# Altium schematic symbol library Device.SchLib: 567 symbols (part 2 of 3)
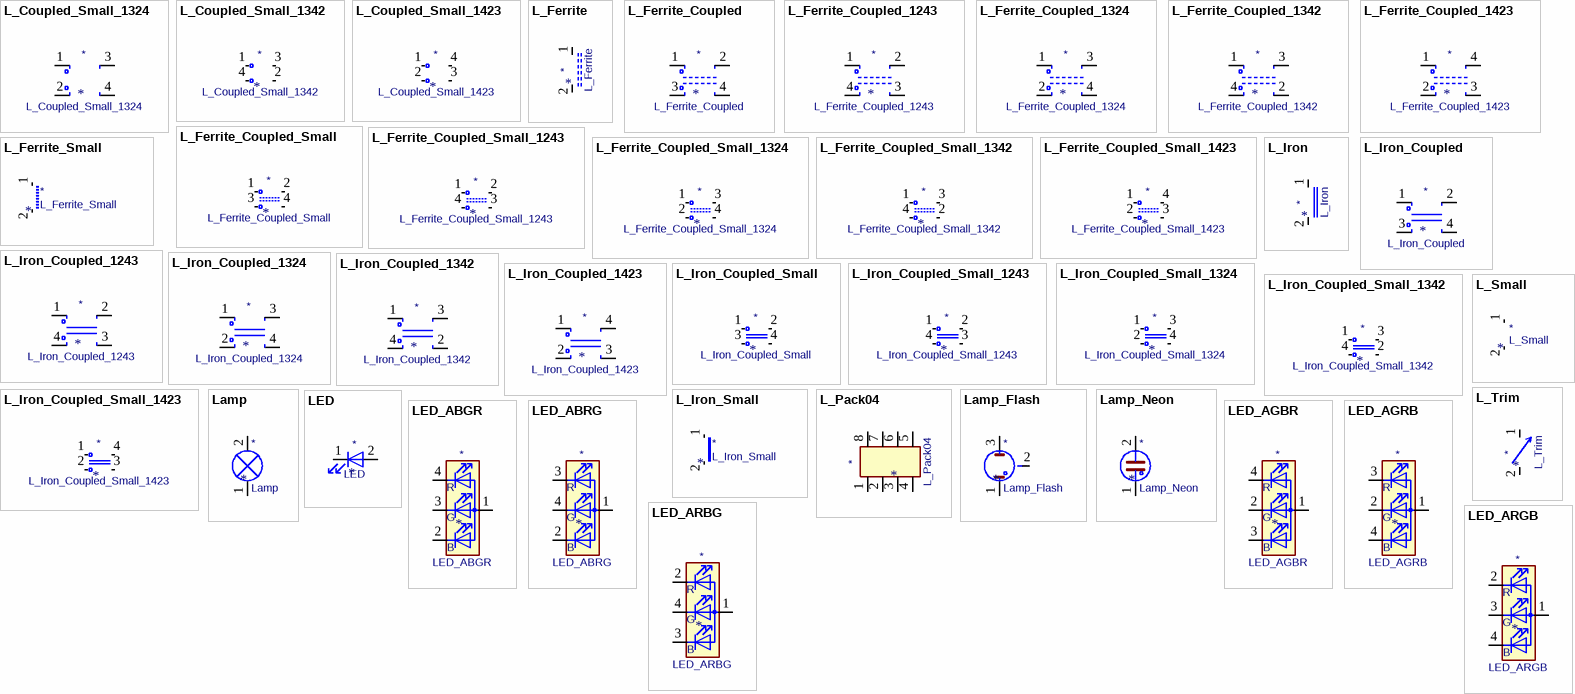
[diagram p20: symbols L_Coupled_Small_1324 to LED_ARGB]

## Lamp_Flash
designator *  value Lamp_Flash
ki_keywords: flash lamp; ki_description: Flash lamp tube; Supplier: ~
pins: 1, 2, 3

## Lamp_Neon
designator *  value Lamp_Neon
ki_keywords: neon lamp; Supplier: ~; ki_description: Neon lamp
pins: 1, 2

## LED
designator *  value LED
ki_keywords: LED diode; ki_description: Light emitting diode; ki_fp_filters: LED* LED_SMD:* LED_THT:*; Supplier: ~
footprint LED_0603_1608Metric
pins: 1 K, 2 A

## LED_ABGR
designator *  value LED_ABGR
ki_keywords: LED RGB diode; ki_description: RGB LED, anode/blue/green/red; ki_fp_filters: LED* LED_SMD:* LED_THT:*; Supplier: ~
pins: 1 A, 2 BK, 3 GK, 4 RK
text: R; G; B

## LED_ABRG
designator *  value LED_ABRG
ki_keywords: LED RGB diode; ki_description: RGB LED, anode/blue/red/green; ki_fp_filters: LED* LED_SMD:* LED_THT:*; Supplier: ~
pins: 1 A, 2 BK, 3 RK, 4 GK
text: R; G; B

## LED_AGBR
designator *  value LED_AGBR
ki_keywords: LED RGB diode; ki_description: RGB LED, anode/green/blue/red; ki_fp_filters: LED* LED_SMD:* LED_THT:*; Supplier: ~
pins: 1 A, 2 GK, 3 BK, 4 RK
text: R; G; B

## LED_AGRB
designator *  value LED_AGRB
ki_keywords: LED RGB diode; ki_description: RGB LED, anode/green/red/blue; ki_fp_filters: LED* LED_SMD:* LED_THT:*; Supplier: ~
pins: 1 A, 2 GK, 3 RK, 4 BK
text: R; G; B

## LED_ARBG
designator *  value LED_ARBG
ki_keywords: LED RGB diode; ki_description: RGB LED, anode/red/blue/green; ki_fp_filters: LED* LED_SMD:* LED_THT:*; Supplier: ~
pins: 1 A, 2 RK, 3 BK, 4 GK
text: R; G; B

## LED_ARGB
designator *  value LED_ARGB
ki_keywords: LED RGB diode; ki_description: RGB LED, anode/red/green/blue; ki_fp_filters: LED* LED_SMD:* LED_THT:*; Supplier: ~
pins: 1 A, 2 RK, 3 GK, 4 BK
text: R; G; B

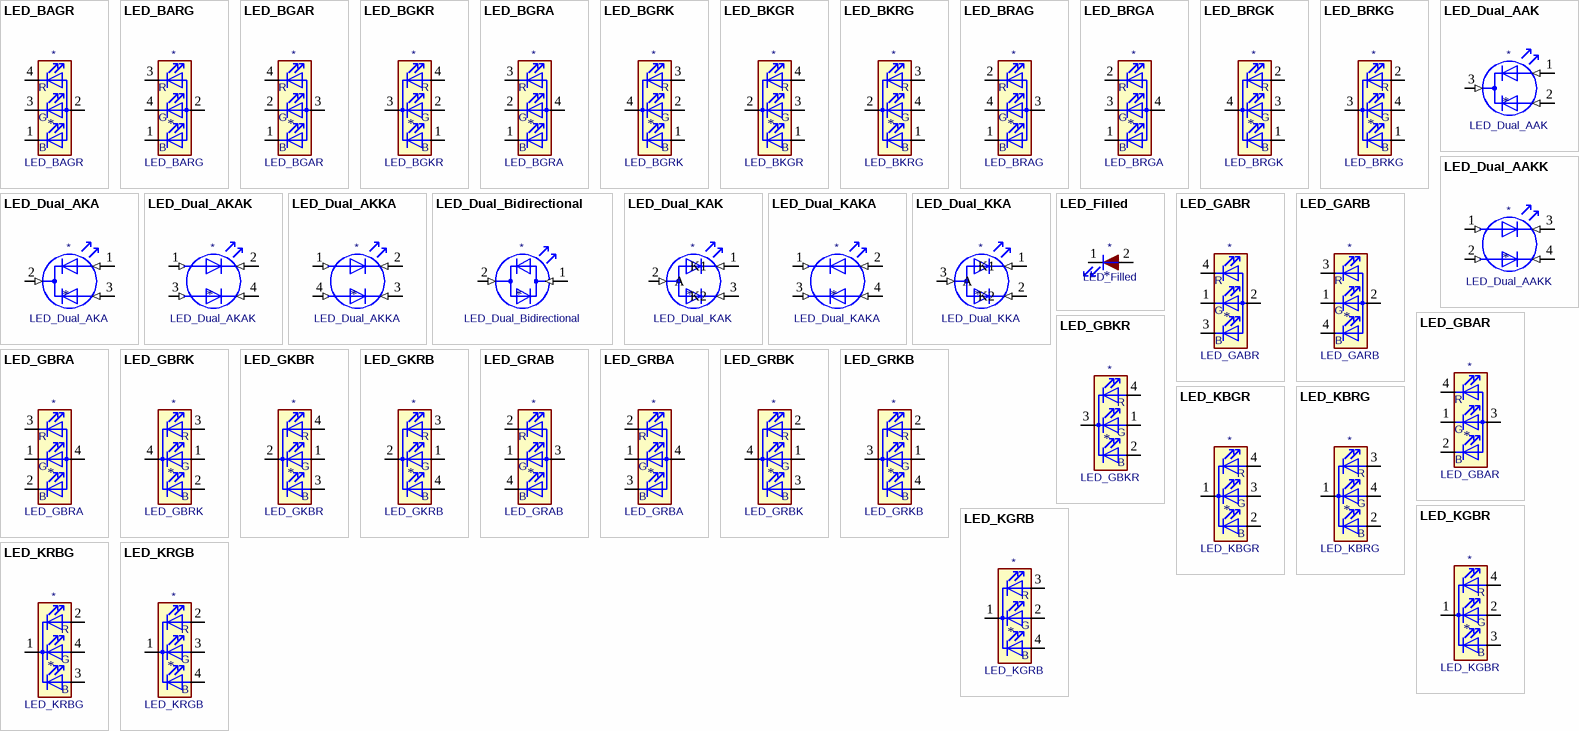
[diagram p7: symbols LED_BAGR to LED_KRGB]

## LED_BAGR
designator *  value LED_BAGR
ki_keywords: LED RGB diode; ki_description: RGB LED, blue/anode/green/red; ki_fp_filters: LED* LED_SMD:* LED_THT:*; Supplier: ~
pins: 1 BK, 2 A, 3 GK, 4 RK
text: R; G; B

## LED_BARG
designator *  value LED_BARG
ki_keywords: LED RGB diode; ki_description: RGB LED, blue/anode/red/green; ki_fp_filters: LED* LED_SMD:* LED_THT:*; Supplier: ~
pins: 1 BK, 2 A, 3 RK, 4 GK
text: R; G; B

## LED_BGAR
designator *  value LED_BGAR
ki_keywords: LED RGB diode; ki_description: RGB LED, blue/green/anode/red; ki_fp_filters: LED* LED_SMD:* LED_THT:*; Supplier: ~
pins: 1 BK, 2 GK, 3 A, 4 RK
text: R; G; B

## LED_BGKR
designator *  value LED_BGKR
ki_keywords: LED RGB diode; ki_description: RGB LED, blue/green/cathode/red; ki_fp_filters: LED* LED_SMD:* LED_THT:*; Supplier: ~
pins: 1 BA, 2 GA, 3 K, 4 RA
text: R; G; B

## LED_BGRA
designator *  value LED_BGRA
ki_keywords: LED RGB diode; ki_description: RGB LED, blue/green/red/anode; ki_fp_filters: LED* LED_SMD:* LED_THT:*; Supplier: ~
pins: 1 BK, 2 GK, 3 RK, 4 A
text: R; G; B

## LED_BGRK
designator *  value LED_BGRK
ki_keywords: LED RGB diode; ki_description: RGB LED, blue/green/red/cathode; ki_fp_filters: LED* LED_SMD:* LED_THT:*; Supplier: ~
pins: 1 BA, 2 GA, 3 RA, 4 K
text: R; G; B

## LED_BKGR
designator *  value LED_BKGR
ki_keywords: LED RGB diode; ki_description: RGB LED, blue/cathode/green/red; ki_fp_filters: LED* LED_SMD:* LED_THT:*; Supplier: ~
pins: 1 BA, 2 K, 3 GA, 4 RA
text: R; G; B

## LED_BKRG
designator *  value LED_BKRG
ki_keywords: LED RGB diode; ki_description: RGB LED, blue/cathode/red/green; ki_fp_filters: LED* LED_SMD:* LED_THT:*; Supplier: ~
pins: 1 BA, 2 K, 3 RA, 4 GA
text: R; G; B

## LED_BRAG
designator *  value LED_BRAG
ki_keywords: LED RGB diode; ki_description: RGB LED, blue/red/anode/green; ki_fp_filters: LED* LED_SMD:* LED_THT:*; Supplier: ~
pins: 1 BK, 2 RK, 3 A, 4 GK
text: R; G; B

## LED_BRGA
designator *  value LED_BRGA
ki_keywords: LED RGB diode; ki_description: RGB LED, blue/red/green/anode; ki_fp_filters: LED* LED_SMD:* LED_THT:*; Supplier: ~
pins: 1 BK, 2 RK, 3 GK, 4 A
text: R; G; B

## LED_BRGK
designator *  value LED_BRGK
ki_keywords: LED RGB diode; ki_description: RGB LED, blue/red/green/cathode; ki_fp_filters: LED* LED_SMD:* LED_THT:*; Supplier: ~
pins: 1 BA, 2 RA, 3 GA, 4 K
text: R; G; B

## LED_BRKG
designator *  value LED_BRKG
ki_keywords: LED RGB diode; ki_description: RGB LED, blue/red/cathode/green; ki_fp_filters: LED* LED_SMD:* LED_THT:*; Supplier: ~
pins: 1 BA, 2 RA, 3 K, 4 GA
text: R; G; B

## LED_Dual_AAK
designator *  value LED_Dual_AAK
ki_keywords: LED diode bicolor dual; ki_description: Dual LED, common cathode on pin 3; ki_fp_filters: LED* LED_SMD:* LED_THT:*; Supplier: ~
pins: 1 A1 (in), 2 A2 (in), 3 K (in)

## LED_Dual_AAKK
designator *  value LED_Dual_AAKK
ki_keywords: LED diode bicolor dual; ki_description: Dual LED, cathodes on pins 3 and 4; ki_fp_filters: LED* LED_SMD:* LED_THT:*; Supplier: ~
pins: 1 A1 (in), 2 A2 (in), 3 K1 (in), 4 K2 (in)

## LED_Dual_AKA
designator *  value LED_Dual_AKA
ki_keywords: LED diode bicolor dual; ki_description: Dual LED, common cathode on pin 2; ki_fp_filters: LED* LED_SMD:* LED_THT:*; Supplier: ~
pins: 1 A1 (in), 2 K (in), 3 A2 (in)

## LED_Dual_AKAK
designator *  value LED_Dual_AKAK
ki_keywords: LED diode bicolor dual; ki_description: Dual LED, cathodes on pins 2 and 4; ki_fp_filters: LED* LED_SMD:* LED_THT:*; Supplier: ~
pins: 1 A1 (in), 2 K1 (in), 3 A2 (in), 4 K2 (in)

## LED_Dual_AKKA
designator *  value LED_Dual_AKKA
ki_keywords: LED diode bicolor dual; ki_description: Dual LED, cathodes on pins 2 and 3; ki_fp_filters: LED* LED_SMD:* LED_THT:*; Supplier: ~
pins: 1 A1 (in), 2 K1 (in), 3 K2 (in), 4 A2 (in)

## LED_Dual_Bidirectional
designator *  value LED_Dual_Bidirectional
ki_keywords: LED diode bicolor dual; ki_description: Dual LED, bidirectional; ki_fp_filters: LED* LED_SMD:* LED_THT:*; Supplier: ~
pins: 1 KA (in), 2 AK (in)

## LED_Dual_KAK
designator *  value LED_Dual_KAK
ki_keywords: LED diode bicolor dual; ki_description: Dual LED, common anode on pin 2; ki_fp_filters: LED* LED_SMD:* LED_THT:*; Supplier: ~
pins: 1 K1 (in), 2 A (in), 3 K2 (in)

## LED_Dual_KAKA
designator *  value LED_Dual_KAKA
ki_keywords: LED diode bicolor dual; ki_description: Dual LED, cathodes on pins 1 and 3; ki_fp_filters: LED* LED_SMD:* LED_THT:*; Supplier: ~
pins: 1 A1 (in), 2 K1 (in), 3 A2 (in), 4 K2 (in)

## LED_Dual_KKA
designator *  value LED_Dual_KKA
ki_keywords: LED diode bicolor dual; ki_description: Dual LED, common anode on pin 3; ki_fp_filters: LED* LED_SMD:* LED_THT:*; Supplier: ~
pins: 1 K1 (in), 2 K2 (in), 3 A (in)

## LED_Filled
designator *  value LED_Filled
ki_keywords: LED diode; ki_description: Light emitting diode, filled shape; ki_fp_filters: LED* LED_SMD:* LED_THT:*; Supplier: ~
pins: 1 K, 2 A

## LED_GABR
designator *  value LED_GABR
ki_keywords: LED RGB diode; ki_description: RGB LED, green/anode/blue/red; ki_fp_filters: LED* LED_SMD:* LED_THT:*; Supplier: ~
pins: 1 GK, 2 A, 3 BK, 4 RK
text: R; G; B

## LED_GARB
designator *  value LED_GARB
ki_keywords: LED RGB diode; ki_description: RGB LED, green/anode/red/blue; ki_fp_filters: LED* LED_SMD:* LED_THT:*; Supplier: ~
pins: 1 GK, 2 A, 3 RK, 4 BK
text: R; G; B

## LED_GBAR
designator *  value LED_GBAR
ki_keywords: LED RGB diode; ki_description: RGB LED, green/blue/anode/red; ki_fp_filters: LED* LED_SMD:* LED_THT:*; Supplier: ~
pins: 1 GK, 2 BK, 3 A, 4 RK
text: R; G; B

## LED_GBKR
designator *  value LED_GBKR
ki_keywords: LED RGB diode; ki_description: RGB LED, green/blue/cathode/red; ki_fp_filters: LED* LED_SMD:* LED_THT:*; Supplier: ~
pins: 1 GA, 2 BA, 3 K, 4 RA
text: R; G; B

## LED_GBRA
designator *  value LED_GBRA
ki_keywords: LED RGB diode; ki_description: RGB LED, green/blue/red/anode; ki_fp_filters: LED* LED_SMD:* LED_THT:*; Supplier: ~
pins: 1 GK, 2 BK, 3 RK, 4 A
text: R; G; B

## LED_GBRK
designator *  value LED_GBRK
ki_keywords: LED RGB diode; ki_description: RGB LED, green/blue/red/cathode; ki_fp_filters: LED* LED_SMD:* LED_THT:*; Supplier: ~
pins: 1 GA, 2 BA, 3 RA, 4 K
text: R; G; B

## LED_GKBR
designator *  value LED_GKBR
ki_keywords: LED RGB diode; ki_description: RGB LED, green/cathode/blue/red; ki_fp_filters: LED* LED_SMD:* LED_THT:*; Supplier: ~
pins: 1 GA, 2 K, 3 BA, 4 RA
text: R; G; B

## LED_GKRB
designator *  value LED_GKRB
ki_keywords: LED RGB diode; ki_description: RGB LED, green/cathode/red/blue; ki_fp_filters: LED* LED_SMD:* LED_THT:*; Supplier: ~
pins: 1 GA, 2 K, 3 RA, 4 BA
text: R; G; B

## LED_GRAB
designator *  value LED_GRAB
ki_keywords: LED RGB diode; ki_description: RGB LED, green/red/anode/blue; ki_fp_filters: LED* LED_SMD:* LED_THT:*; Supplier: ~
pins: 1 GK, 2 RK, 3 A, 4 BK
text: R; G; B

## LED_GRBA
designator *  value LED_GRBA
ki_keywords: LED RGB diode; ki_description: RGB LED, green/red/blue/anode; ki_fp_filters: LED* LED_SMD:* LED_THT:*; Supplier: ~
pins: 1 GK, 2 RK, 3 BK, 4 A
text: R; G; B

## LED_GRBK
designator *  value LED_GRBK
ki_keywords: LED RGB diode; ki_description: RGB LED, green/red/blue/cathode; ki_fp_filters: LED* LED_SMD:* LED_THT:*; Supplier: ~
pins: 1 GA, 2 RA, 3 BA, 4 K
text: R; G; B

## LED_GRKB
designator *  value LED_GRKB
ki_keywords: LED RGB diode; ki_description: RGB LED, green/red/cathode/blue; ki_fp_filters: LED* LED_SMD:* LED_THT:*; Supplier: ~
pins: 1 GA, 2 RA, 3 K, 4 BA
text: R; G; B

## LED_KBGR
designator *  value LED_KBGR
ki_keywords: LED RGB diode; ki_description: RGB LED, cathode/blue/green/red; ki_fp_filters: LED* LED_SMD:* LED_THT:*; Supplier: ~
pins: 1 K, 2 BA, 3 GA, 4 RA
text: R; G; B

## LED_KBRG
designator *  value LED_KBRG
ki_keywords: LED RGB diode; ki_description: RGB LED, cathode/blue/red/green; ki_fp_filters: LED* LED_SMD:* LED_THT:*; Supplier: ~
pins: 1 K, 2 BA, 3 RA, 4 GA
text: R; G; B

## LED_KGBR
designator *  value LED_KGBR
ki_keywords: LED RGB diode; ki_description: RGB LED, cathode/green/blue/red; ki_fp_filters: LED* LED_SMD:* LED_THT:*; Supplier: ~
pins: 1 K, 2 GA, 3 BA, 4 RA
text: R; G; B

## LED_KGRB
designator *  value LED_KGRB
ki_keywords: LED RGB diode; ki_description: RGB LED, cathode/green/red/blue; ki_fp_filters: LED* LED_SMD:* LED_THT:*; Supplier: ~
pins: 1 K, 2 GA, 3 RA, 4 BA
text: R; G; B

## LED_KRBG
designator *  value LED_KRBG
ki_keywords: LED RGB diode; ki_description: RGB LED, cathode/red/blue/green; ki_fp_filters: LED* LED_SMD:* LED_THT:*; Supplier: ~
pins: 1 K, 2 RA, 3 BA, 4 GA
text: R; G; B

## LED_KRGB
designator *  value LED_KRGB
ki_keywords: LED RGB diode; ki_description: RGB LED, cathode/red/green/blue; ki_fp_filters: LED* LED_SMD:* LED_THT:*; Supplier: ~
pins: 1 K, 2 RA, 3 GA, 4 BA
text: R; G; B

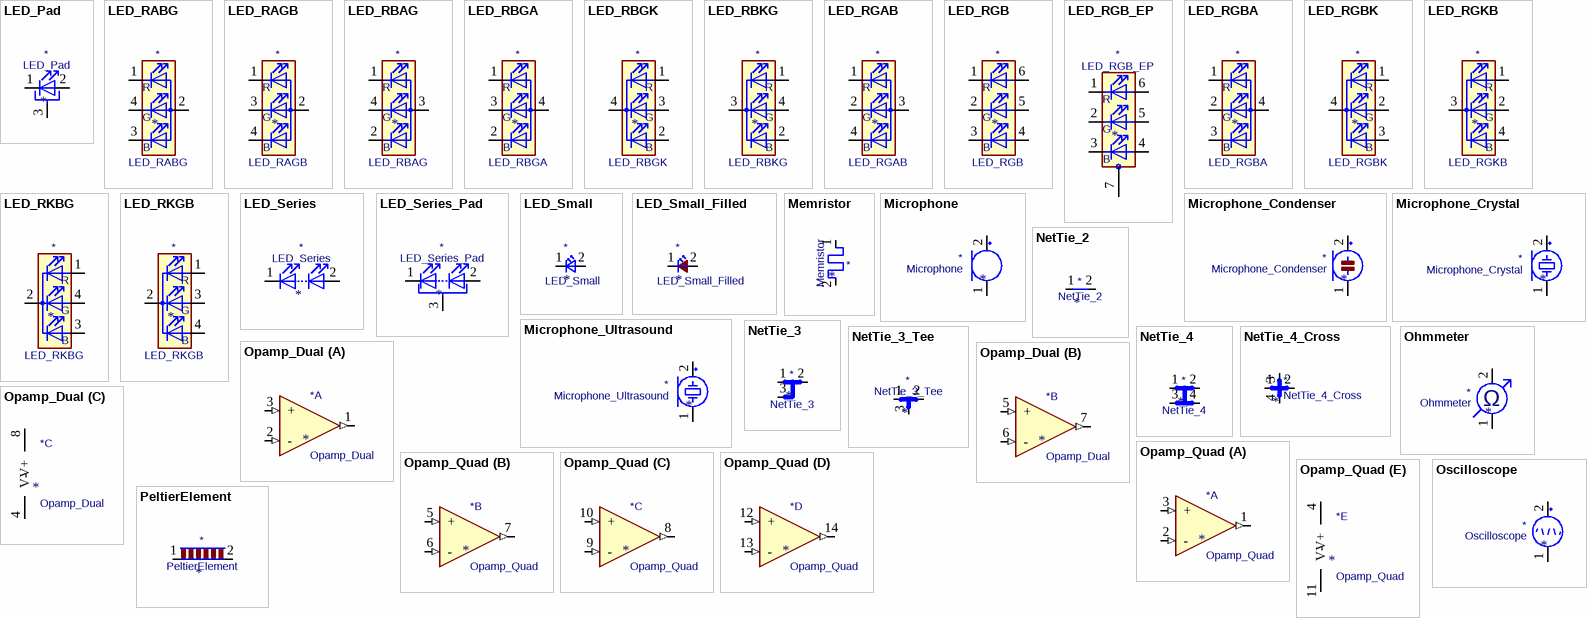
[diagram p8: symbols LED_Pad to PeltierElement]

## LED_Pad
designator *  value LED_Pad
ki_keywords: LED diode pad; ki_description: Light emitting diode with pad; ki_fp_filters: LED* LED_SMD:* LED_THT:*; Supplier: ~
pins: 1 K, 2 A, 3 PAD

## LED_RABG
designator *  value LED_RABG
ki_keywords: LED RGB diode; ki_description: RGB LED, red/anode/blue/green; ki_fp_filters: LED* LED_SMD:* LED_THT:*; Supplier: ~
pins: 1 RK, 2 A, 3 BK, 4 GK
text: R; G; B

## LED_RAGB
designator *  value LED_RAGB
ki_keywords: LED RGB diode; ki_description: RGB LED, red/anode/green/blue; ki_fp_filters: LED* LED_SMD:* LED_THT:*; Supplier: ~
pins: 1 RK, 2 A, 3 GK, 4 BK
text: R; G; B

## LED_RBAG
designator *  value LED_RBAG
ki_keywords: LED RGB diode; ki_description: RGB LED, red/blue/anode/green; ki_fp_filters: LED* LED_SMD:* LED_THT:*; Supplier: ~
pins: 1 RK, 2 BK, 3 A, 4 GK
text: R; G; B

## LED_RBGA
designator *  value LED_RBGA
ki_keywords: LED RGB diode; ki_description: RGB LED, red/blue/green/anode; ki_fp_filters: LED* LED_SMD:* LED_THT:*; Supplier: ~
pins: 1 RK, 2 BK, 3 GK, 4 A
text: R; G; B

## LED_RBGK
designator *  value LED_RBGK
ki_keywords: LED RGB diode; ki_description: RGB LED, red/blue/green/cathode; ki_fp_filters: LED* LED_SMD:* LED_THT:*; Supplier: ~
pins: 1 RA, 2 BA, 3 GA, 4 K
text: R; G; B

## LED_RBKG
designator *  value LED_RBKG
ki_keywords: LED RGB diode; ki_description: RGB LED, red/blue/cathode/green; ki_fp_filters: LED* LED_SMD:* LED_THT:*; Supplier: ~
pins: 1 RA, 2 BA, 3 K, 4 GA
text: R; G; B

## LED_RGAB
designator *  value LED_RGAB
ki_keywords: LED RGB diode; ki_description: RGB LED, red/green/anode/blue; ki_fp_filters: LED* LED_SMD:* LED_THT:*; Supplier: ~
pins: 1 RK, 2 GK, 3 A, 4 BK
text: R; G; B

## LED_RGB
designator *  value LED_RGB
ki_keywords: LED RGB diode; ki_description: RGB LED, 6 pin package; ki_fp_filters: LED* LED_SMD:* LED_THT:*; Supplier: ~
pins: 1 RK, 2 GK, 3 BK, 4 BA, 5 GA, 6 RA
text: R; G; B

## LED_RGB_EP
designator *  value LED_RGB_EP
ki_keywords: LED RGB diode; ki_description: RGB LED, 6 pin package with exposed pad; ki_fp_filters: LED* LED_SMD:* LED_THT:*; Supplier: ~
pins: 1 RK, 2 GK, 3 BK, 4 BA, 5 GA, 6 RA, 7 PAD
text: R; G; B

## LED_RGBA
designator *  value LED_RGBA
ki_keywords: LED RGB diode; ki_description: RGB LED, red/green/blue/anode; ki_fp_filters: LED* LED_SMD:* LED_THT:*; Supplier: ~
pins: 1 RK, 2 GK, 3 BK, 4 A
text: R; G; B

## LED_RGBK
designator *  value LED_RGBK
ki_keywords: LED RGB diode; ki_description: RGB LED, red/green/blue/cathode; ki_fp_filters: LED* LED_SMD:* LED_THT:*; Supplier: ~
pins: 1 RA, 2 GA, 3 BA, 4 K
text: R; G; B

## LED_RGKB
designator *  value LED_RGKB
ki_keywords: LED RGB diode; ki_description: RGB LED, red/green/cathode/blue; ki_fp_filters: LED* LED_SMD:* LED_THT:*; Supplier: ~
pins: 1 RA, 2 GA, 3 K, 4 BA
text: R; G; B

## LED_RKBG
designator *  value LED_RKBG
ki_keywords: LED RGB diode; ki_description: RGB LED, red/cathode/blue/green; ki_fp_filters: LED* LED_SMD:* LED_THT:*; Supplier: ~
pins: 1 RA, 2 K, 3 BA, 4 GA
text: R; G; B

## LED_RKGB
designator *  value LED_RKGB
ki_keywords: LED RGB diode; ki_description: RGB LED, red/cathode/green/blue; ki_fp_filters: LED* LED_SMD:* LED_THT:*; Supplier: ~
pins: 1 RA, 2 K, 3 GA, 4 BA
text: R; G; B

## LED_Series
designator *  value LED_Series
ki_keywords: LED diode; ki_description: Several LEDs in series; ki_fp_filters: LED* LED_SMD:* LED_THT:*; Supplier: ~
pins: 1 K, 2 A

## LED_Series_Pad
designator *  value LED_Series_Pad
ki_keywords: LED diode pad; ki_description: Several LEDs in series with exposed pad; ki_fp_filters: LED* LED_SMD:* LED_THT:*; Supplier: ~
pins: 1 K, 2 A, 3 PAD

## LED_Small
designator *  value LED_Small
ki_keywords: LED diode light-emitting-diode; ki_description: Light emitting diode, small symbol; ki_fp_filters: LED* LED_SMD:* LED_THT:*; Supplier: ~
pins: 1 K, 2 A

## LED_Small_Filled
designator *  value LED_Small_Filled
ki_keywords: LED diode light-emitting-diode; ki_description: Light emitting diode, small symbol, filled shape; ki_fp_filters: LED* LED_SMD:* LED_THT:*; Supplier: ~
pins: 1 K, 2 A

## Memristor
designator *  value Memristor
Supplier: ~; ki_keywords: memristor; ki_description: Memristor
pins: 1, 2

## Microphone
designator *  value Microphone
Supplier: ~; ki_keywords: microphone; ki_description: Microphone
pins: 1 -, 2 +

## Microphone_Condenser
designator *  value Microphone_Condenser
ki_keywords: capacitance condenser microphone; ki_description: Condenser microphone; Supplier: ~
pins: 1 -, 2 +

## Microphone_Crystal
designator *  value Microphone_Crystal
ki_keywords: microphone crystal; ki_description: Crystal microphone; Supplier: ~
pins: 1 -, 2 +

## Microphone_Ultrasound
designator *  value Microphone_Ultrasound
ki_keywords: microphone ultrasound crystal; ki_description: Ultrasound receiver; Supplier: ~
pins: 1 -, 2 +

## NetTie_2
designator *  value NetTie_2
ki_keywords: net tie short; ki_description: Net tie, 2 pins; ki_fp_filters: Net*Tie*; Supplier: ~
pins: 1, 2

## NetTie_3
designator *  value NetTie_3
ki_keywords: net tie short; ki_description: Net tie, 3 pins; ki_fp_filters: Net*Tie*; Supplier: ~
pins: 1, 2, 3

## NetTie_3_Tee
designator *  value NetTie_3_Tee
ki_keywords: net tie short; ki_description: Net tie, 3 pins, tee; ki_fp_filters: Net*Tie*; Supplier: ~
pins: 1, 2, 3

## NetTie_4
designator *  value NetTie_4
ki_keywords: net tie short; ki_description: Net tie, 4 pins; ki_fp_filters: Net*Tie*; Supplier: ~
pins: 1, 2, 3, 4

## NetTie_4_Cross
designator *  value NetTie_4_Cross
ki_keywords: net tie short; ki_description: Net tie, 4 pins, cross; ki_fp_filters: Net*Tie*; Supplier: ~
pins: 1, 2, 3, 4

## Ohmmeter
designator *  value Ohmmeter
ki_keywords: ohmmeter resistance; Supplier: ~; ki_description: Ohmmeter
pins: 1 -, 2 +
text: Ω

## Opamp_Dual
designator *  value Opamp_Dual
ki_keywords: dual opamp; ki_description: Dual operational amplifier; ki_fp_filters: SOIC*3.9x4.9mm*P1.27mm* DIP*W7.62mm* MSOP*3x3mm*P0.65mm* SSOP*2.95x2.8mm*P0.65mm* TSSOP*3x3mm*P0.65mm* VSSOP*P0.5mm* TO?99*; Supplier: ~
part A pins: 1 (out), 2 - (in), 3 + (in)
part B pins: 5 + (in), 6 - (in), 7 (out)
part C pins: 4 V- (power), 8 V+ (power)

## Opamp_Quad
designator *  value Opamp_Quad
ki_keywords: quad opamp; ki_description: Quad operational amplifier; ki_fp_filters: SOIC*3.9x8.7mm*P1.27mm* DIP*W7.62mm* TSSOP*4.4x5mm*P0.65mm* SSOP*5.3x6.2mm*P0.65mm*; Supplier: ~
part A pins: 1 (out), 2 - (in), 3 + (in)
part B pins: 5 + (in), 6 - (in), 7 (out)
part C pins: 8 (out), 9 - (in), 10 + (in)
part D pins: 12 + (in), 13 - (in), 14 (out)
part E pins: 4 V+ (power), 11 V- (power)

## Oscilloscope
designator *  value Oscilloscope
Supplier: ~; ki_keywords: oscilloscope; ki_description: Oscilloscope
pins: 1 -, 2 +

## PeltierElement
designator *  value PeltierElement
ki_keywords: Peltier TEC; ki_description: Peltier element, thermoelectric cooler; Supplier: ~
pins: 1, 2

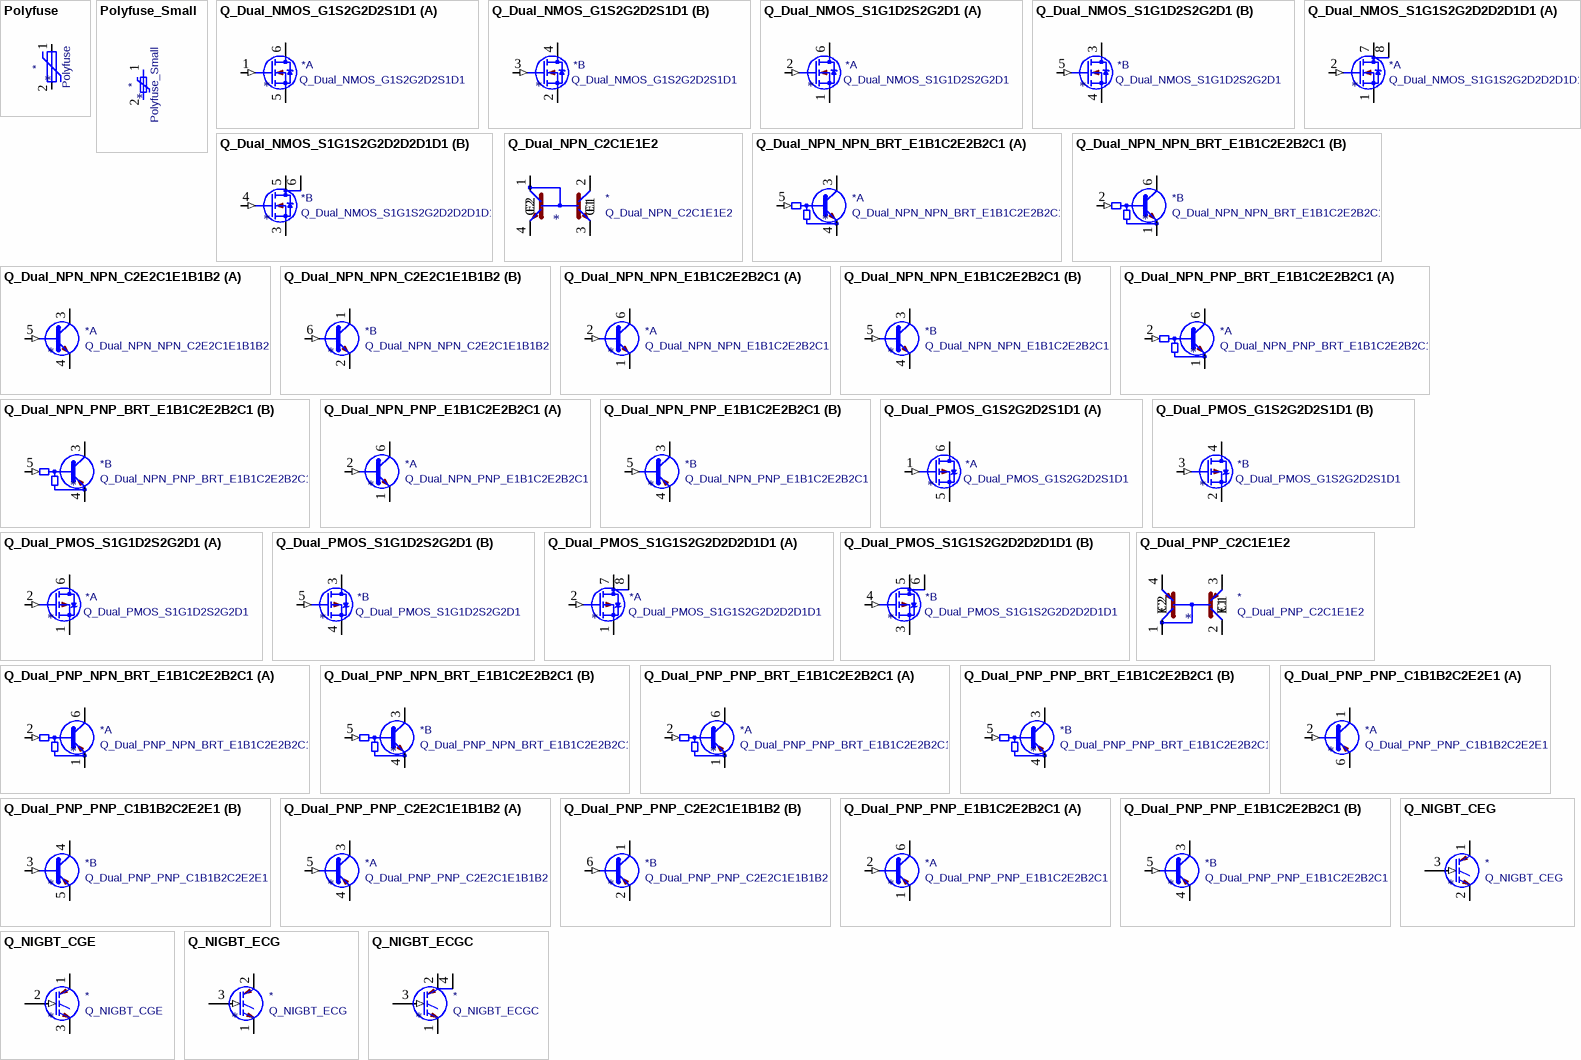
[diagram p9: symbols Polyfuse to Q_NIGBT_ECGC]

## Polyfuse
designator *  value Polyfuse
ki_keywords: resettable fuse PTC PPTC polyfuse polyswitch; ki_description: Resettable fuse, polymeric positive temperature coefficient; ki_fp_filters: *polyfuse* *PTC*; Supplier: ~
pins: 1, 2

## Polyfuse_Small
designator *  value Polyfuse_Small
ki_keywords: resettable fuse PTC PPTC polyfuse polyswitch; ki_description: Resettable fuse, polymeric positive temperature coefficient, small symbol; ki_fp_filters: *polyfuse* *PTC*; Supplier: ~
pins: 1, 2

## Q_Dual_NMOS_G1S2G2D2S1D1
designator *  value Q_Dual_NMOS_G1S2G2D2S1D1
ki_keywords: transistor NMOS N-MOS N-MOSFET; ki_description: Dual NMOS transistor, 6 pin package; ki_fp_filters: TSOP* SC?70* SC?88* SOT?363*; Supplier: ~
part A pins: 1 G (in), 5 S, 6 D
part B pins: 2 S, 3 G (in), 4 D

## Q_Dual_NMOS_S1G1D2S2G2D1
designator *  value Q_Dual_NMOS_S1G1D2S2G2D1
ki_keywords: transistor NMOS N-MOS N-MOSFET; ki_description: Dual NMOS transistor, 6 pin package; ki_fp_filters: TSOP* SC?70* SC?88* SOT?363*; Supplier: ~
part A pins: 1 S, 2 G (in), 6 D
part B pins: 3 D, 4 S, 5 G (in)

## Q_Dual_NMOS_S1G1S2G2D2D2D1D1
designator *  value Q_Dual_NMOS_S1G1S2G2D2D2D1D1
ki_keywords: transistor NMOS N-MOS N-MOSFET; ki_description: Dual NMOS transistor, 8 pin package; ki_fp_filters: SO* SOIC*; Supplier: ~
part A pins: 1 S, 2 G (in), 7 D, 8 D
part B pins: 3 S, 4 G (in), 5 D, 6 D

## Q_Dual_NPN_C2C1E1E2
designator *  value Q_Dual_NPN_C2C1E1E2
ki_keywords: transistor NPN; ki_description: Double NPN transistors, current mirror configuration; ki_fp_filters: SOT?143*; Supplier: ~
pins: 1 C2, 2 C1, 3 E1, 4 E2

## Q_Dual_NPN_NPN_BRT_E1B1C2E2B2C1
designator *  value Q_Dual_NPN_NPN_BRT_E1B1C2E2B2C1
ki_keywords: transistor NPN; ki_description: Dual NPN bias resistor transistor, 6 pin package; ki_fp_filters: SC?70* SC?88* SOT*363*; Supplier: ~
part A pins: 3 C1, 4 E1, 5 B1 (in)
part B pins: 1 E1, 2 B1 (in), 6 C1

## Q_Dual_NPN_NPN_C2E2C1E1B1B2
designator *  value Q_Dual_NPN_NPN_C2E2C1E1B1B2
ki_keywords: transistor NPN; ki_description: Dual NPN transistor, 6 pin package; ki_fp_filters: SC?70* SC?88* SOT?363* SOT?23*; Supplier: ~
part A pins: 3 C1, 4 E1, 5 B1 (in)
part B pins: 1 C2, 2 E2, 6 B2 (in)

## Q_Dual_NPN_NPN_E1B1C2E2B2C1
designator *  value Q_Dual_NPN_NPN_E1B1C2E2B2C1
ki_keywords: transistor NPN; ki_description: Dual NPN transistor, 6 pin package; ki_fp_filters: SC?70* SC?88* SOT?363* SOT?23*; Supplier: ~
part A pins: 1 E1, 2 B1 (in), 6 C1
part B pins: 3 C2, 4 E2, 5 B2 (in)

## Q_Dual_NPN_PNP_BRT_E1B1C2E2B2C1
designator *  value Q_Dual_NPN_PNP_BRT_E1B1C2E2B2C1
ki_keywords: transistor NPN; ki_description: Dual NPN/PNP bias resistor transistor, 6 pin package; ki_fp_filters: SC?70* SC?88* SOT*363*; Supplier: ~
part A pins: 1 E1, 2 B1 (in), 6 C1
part B pins: 3 C1, 4 E1, 5 B1 (in)

## Q_Dual_NPN_PNP_E1B1C2E2B2C1
designator *  value Q_Dual_NPN_PNP_E1B1C2E2B2C1
ki_keywords: transistor NPN PNP; ki_description: Dual NPN/PNP transistor, 6 pin package; ki_fp_filters: SC?70* SC?88* SOT?363* SOT?23*; Supplier: ~
part A pins: 1 E1, 2 B1 (in), 6 C1
part B pins: 3 C2, 4 E2, 5 B2 (in)

## Q_Dual_PMOS_G1S2G2D2S1D1
designator *  value Q_Dual_PMOS_G1S2G2D2S1D1
ki_keywords: transistor PMOS P-MOS P-MOSFET; ki_description: Dual PMOS transistor, 6 pin package; ki_fp_filters: TSOP* SC?70* SC?88* SOT?363*; Supplier: ~
part A pins: 1 G (in), 5 S, 6 D
part B pins: 2 S, 3 G (in), 4 D

## Q_Dual_PMOS_S1G1D2S2G2D1
designator *  value Q_Dual_PMOS_S1G1D2S2G2D1
ki_keywords: transistor PMOS P-MOS P-MOSFET; ki_description: Dual PMOS transistor, 6 pin package; ki_fp_filters: TSOP* SC?70* SC?88* SOT?363*; Supplier: ~
part A pins: 1 S, 2 G (in), 6 D
part B pins: 3 D, 4 S, 5 G (in)

## Q_Dual_PMOS_S1G1S2G2D2D2D1D1
designator *  value Q_Dual_PMOS_S1G1S2G2D2D2D1D1
ki_keywords: transistor PMOS P-MOS P-MOSFET; ki_description: Dual PMOS transistor, 8 pin package; ki_fp_filters: SO*; Supplier: ~
part A pins: 1 S, 2 G (in), 7 D, 8 G
part B pins: 3 S, 4 G (in), 5 D, 6 G

## Q_Dual_PNP_C2C1E1E2
designator *  value Q_Dual_PNP_C2C1E1E2
ki_keywords: transistor PNP; ki_description: Double PNP transistors, current mirror configuration; ki_fp_filters: SOT?143*; Supplier: ~
pins: 1 C2, 2 C1, 3 E1, 4 E2

## Q_Dual_PNP_NPN_BRT_E1B1C2E2B2C1
designator *  value Q_Dual_PNP_NPN_BRT_E1B1C2E2B2C1
ki_keywords: transistor NPN; ki_description: Dual PNP/NPN bias resistor transistor, 6 pin package; ki_fp_filters: SC?70* SC?88* SOT*363*; Supplier: ~
part A pins: 1 E1, 2 B1 (in), 6 C1
part B pins: 3 C1, 4 E1, 5 B1 (in)

## Q_Dual_PNP_PNP_BRT_E1B1C2E2B2C1
designator *  value Q_Dual_PNP_PNP_BRT_E1B1C2E2B2C1
ki_keywords: transistor NPN; ki_description: Dual PNP bias resistor transistor, 6 pin package; ki_fp_filters: SC?70* SC?88* SOT*363*; Supplier: ~
part A pins: 1 E1, 2 B1 (in), 6 C1
part B pins: 3 C2, 4 E2, 5 B2 (in)

## Q_Dual_PNP_PNP_C1B1B2C2E2E1
designator *  value Q_Dual_PNP_PNP_C1B1B2C2E2E1
ki_keywords: transistor PNP; ki_description: Dual PNP transistor, 6 pin package; ki_fp_filters: SC?70* SC?88* SOT?363* SOT?23*; Supplier: https://www.diodes.com/assets/Datasheets/ds30437.pdf
part A pins: 1 C1, 2 B1 (in), 6 E1
part B pins: 3 B2 (in), 4 C2, 5 E2

## Q_Dual_PNP_PNP_C2E2C1E1B1B2
designator *  value Q_Dual_PNP_PNP_C2E2C1E1B1B2
ki_keywords: transistor PNP; ki_description: Dual PNP transistor, 6 pin package; ki_fp_filters: SC?70* SC?88* SOT?363* SOT?23*; Supplier: ~
part A pins: 3 C1, 4 E1, 5 B1 (in)
part B pins: 1 C2, 2 E2, 6 B2 (in)

## Q_Dual_PNP_PNP_E1B1C2E2B2C1
designator *  value Q_Dual_PNP_PNP_E1B1C2E2B2C1
ki_keywords: transistor PNP; ki_description: Dual PNP transistor, 6 pin package; ki_fp_filters: SC?70* SC?88* SOT?363* SOT?23*; Supplier: ~
part A pins: 1 E1, 2 B1 (in), 6 C1
part B pins: 3 C2, 4 E2, 5 B2 (in)

## Q_NIGBT_CEG
designator *  value Q_NIGBT_CEG
ki_keywords: transistor IGBT N-IGBT; ki_description: N-IGBT transistor, collector/emitter/gate; Supplier: ~
pins: 1 C, 2 E, 3 G (in)

## Q_NIGBT_CGE
designator *  value Q_NIGBT_CGE
ki_keywords: transistor IGBT N-IGBT; ki_description: N-IGBT transistor, collector/gate/emitter; Supplier: ~
pins: 1 C, 2 G (in), 3 E

## Q_NIGBT_ECG
designator *  value Q_NIGBT_ECG
ki_keywords: transistor IGBT N-IGBT; ki_description: N-IGBT transistor, emitter/collector/gate; Supplier: ~
pins: 1 E, 2 C, 3 G (in)

## Q_NIGBT_ECGC
designator *  value Q_NIGBT_ECGC
ki_keywords: transistor IGBT N-IGBT; ki_description: N-IGBT transistor, emitter/collector/gate, collector connected to mounting plane; Supplier: ~
pins: 1 E, 2 C, 3 G (in), 4 C

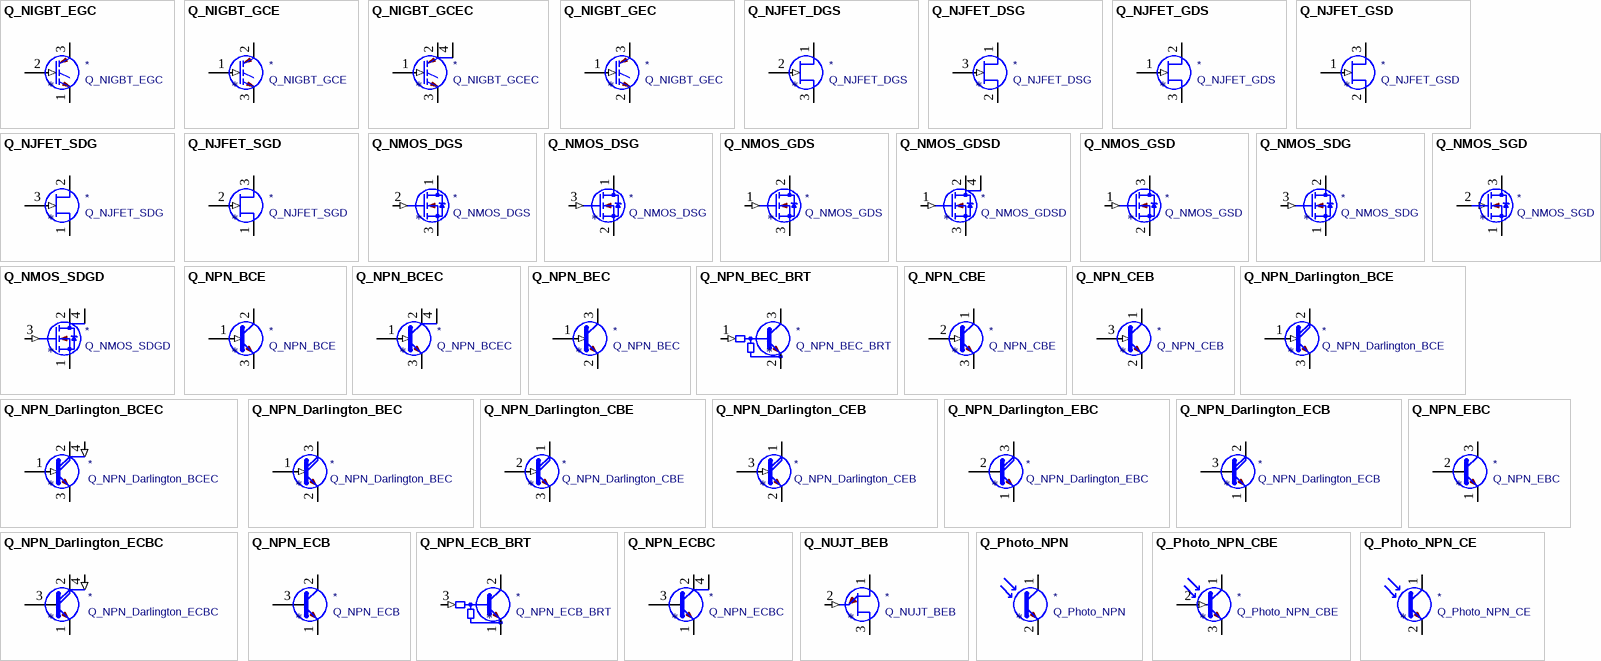
[diagram p10: symbols Q_NIGBT_EGC to Q_Photo_NPN_CE]

## Q_NIGBT_EGC
designator *  value Q_NIGBT_EGC
ki_keywords: transistor IGBT N-IGBT; ki_description: N-IGBT transistor, emitter/gate/collector; Supplier: ~
pins: 1 E, 2 G (in), 3 C

## Q_NIGBT_GCE
designator *  value Q_NIGBT_GCE
ki_keywords: transistor IGBT N-IGBT; ki_description: N-IGBT transistor, gate/collector/emitter; Supplier: ~
pins: 1 G (in), 2 C, 3 E

## Q_NIGBT_GCEC
designator *  value Q_NIGBT_GCEC
ki_keywords: transistor IGBT N-IGBT; ki_description: N-IGBT transistor, gate/collector/emitter, collector connected to mounting plane; Supplier: ~
pins: 1 G (in), 2 C, 3 E, 4 C

## Q_NIGBT_GEC
designator *  value Q_NIGBT_GEC
ki_keywords: transistor IGBT N-IGBT; ki_description: N-IGBT transistor, gate/emitter/collector; Supplier: ~
pins: 1 G (in), 2 E, 3 C

## Q_NJFET_DGS
designator *  value Q_NJFET_DGS
ki_keywords: transistor NJFET N-JFET; ki_description: N-JFET transistor, drain/gate/source; Supplier: ~
pins: 1 D, 2 G (in), 3 S

## Q_NJFET_DSG
designator *  value Q_NJFET_DSG
ki_keywords: transistor NJFET N-JFET; ki_description: N-JFET transistor, drain/source/gate; Supplier: ~
pins: 1 D, 2 S, 3 G (in)

## Q_NJFET_GDS
designator *  value Q_NJFET_GDS
ki_keywords: transistor NJFET N-JFET; ki_description: N-JFET transistor, gate/drain/source; Supplier: ~
pins: 1 G (in), 2 D, 3 S

## Q_NJFET_GSD
designator *  value Q_NJFET_GSD
ki_keywords: transistor NJFET N-JFET; ki_description: N-JFET transistor, gate/source/drain; Supplier: ~
pins: 1 G (in), 2 S, 3 D

## Q_NJFET_SDG
designator *  value Q_NJFET_SDG
ki_keywords: transistor NJFET N-JFET; ki_description: N-JFET transistor, source/drain/gate; Supplier: ~
pins: 1 S, 2 D, 3 G (in)

## Q_NJFET_SGD
designator *  value Q_NJFET_SGD
ki_keywords: transistor NJFET N-JFET; ki_description: N-JFET transistor, source/gate/drain; Supplier: ~
pins: 1 S, 2 G (in), 3 D

## Q_NMOS_DGS
designator *  value Q_NMOS_DGS
ki_keywords: transistor NMOS N-MOS N-MOSFET; ki_description: N-MOSFET transistor, drain/gate/source; Supplier: ~
pins: 1 D, 2 G (in), 3 S

## Q_NMOS_DSG
designator *  value Q_NMOS_DSG
ki_keywords: transistor NMOS N-MOS N-MOSFET; ki_description: N-MOSFET transistor, drain/source/gate; Supplier: ~
pins: 1 D, 2 S, 3 G (in)

## Q_NMOS_GDS
designator *  value Q_NMOS_GDS
ki_keywords: transistor NMOS N-MOS N-MOSFET; ki_description: N-MOSFET transistor, gate/drain/source; Supplier: ~
pins: 1 G (in), 2 D, 3 S

## Q_NMOS_GDSD
designator *  value Q_NMOS_GDSD
ki_keywords: transistor NMOS N-MOS N-MOSFET; ki_description: N-MOSFET transistor, gate/drain/source, drain connected to mounting plane; Supplier: ~
pins: 1 G (in), 2 D, 3 S, 4 D

## Q_NMOS_GSD
designator *  value Q_NMOS_GSD
ki_keywords: transistor NMOS N-MOS N-MOSFET; ki_description: N-MOSFET transistor, gate/source/drain; Supplier: ~
pins: 1 G (in), 2 S, 3 D

## Q_NMOS_SDG
designator *  value Q_NMOS_SDG
ki_keywords: transistor NMOS N-MOS N-MOSFET; ki_description: N-MOSFET transistor, source/drain/gate; Supplier: ~
pins: 1 S, 2 D, 3 G (in)

## Q_NMOS_SDGD
designator *  value Q_NMOS_SDGD
ki_keywords: transistor NMOS N-MOS N-MOSFET; ki_description: N-MOSFET transistor, source/drain/gate, drain connected to mounting plane; Supplier: ~
pins: 1 S, 2 D, 3 G (in), 4 D

## Q_NMOS_SGD
designator *  value Q_NMOS_SGD
ki_keywords: transistor NMOS N-MOS N-MOSFET; ki_description: N-MOSFET transistor, source/gate/drain; Supplier: ~
pins: 1 S, 2 G (in), 3 D

## Q_NPN_BCE
designator *  value Q_NPN_BCE
ki_keywords: transistor NPN; ki_description: NPN transistor, base/collector/emitter; Supplier: ~
pins: 1 B (in), 2 C, 3 E

## Q_NPN_BCEC
designator *  value Q_NPN_BCEC
ki_keywords: transistor NPN; ki_description: NPN transistor, base/collector/emitter, collector connected to mounting plane; Supplier: ~
pins: 1 B (in), 2 C, 3 E, 4 C

## Q_NPN_BEC
designator *  value Q_NPN_BEC
ki_keywords: transistor NPN; ki_description: NPN transistor, base/emitter/collector; Supplier: ~
pins: 1 B (in), 2 E, 3 C

## Q_NPN_BEC_BRT
designator *  value Q_NPN_BEC_BRT
ki_keywords: transistor NPN; ki_description: NPN bias resistor transistor, base/emitter/collector; Supplier: ~
pins: 1 B (in), 2 E, 3 C

## Q_NPN_CBE
designator *  value Q_NPN_CBE
ki_keywords: transistor NPN; ki_description: NPN transistor, collector/base/emitter; Supplier: ~
pins: 1 C, 2 B (in), 3 E

## Q_NPN_CEB
designator *  value Q_NPN_CEB
ki_keywords: transistor NPN; ki_description: NPN transistor, collector/emitter/base; Supplier: ~
pins: 1 C, 2 E, 3 B (in)

## Q_NPN_Darlington_BCE
designator *  value Q_NPN_Darlington_BCE
ki_keywords: transistor NPN Darlington; ki_description: NPN Darlington transistor, base/collector/emitter; Supplier: ~
pins: 1 B (in), 2 C, 3 E

## Q_NPN_Darlington_BCEC
designator *  value Q_NPN_Darlington_BCEC
ki_keywords: transistor NPN Darlington; ki_description: NPN Darlington transistor, base/collector/emitter, collector connected to mounting plane; Supplier: ~
pins: 1 B (in), 2 C, 3 E, 4 C2 (in)

## Q_NPN_Darlington_BEC
designator *  value Q_NPN_Darlington_BEC
ki_keywords: transistor NPN Darlington; ki_description: NPN Darlington transistor, base/emitter/collector; Supplier: ~
pins: 1 B (in), 2 E, 3 C

## Q_NPN_Darlington_CBE
designator *  value Q_NPN_Darlington_CBE
ki_keywords: transistor NPN Darlington; ki_description: NPN Darlington transistor, collector/base/emitter; Supplier: ~
pins: 1 C, 2 B (in), 3 E

## Q_NPN_Darlington_CEB
designator *  value Q_NPN_Darlington_CEB
ki_keywords: transistor NPN Darlington; ki_description: NPN Darlington transistor, collector/emitter/base; Supplier: ~
pins: 1 C, 2 E, 3 B (in)

## Q_NPN_Darlington_EBC
designator *  value Q_NPN_Darlington_EBC
ki_keywords: transistor NPN Darlington; ki_description: NPN Darlington transistor, emitter/base/collector; Supplier: ~
pins: 1 E, 2 B, 3 C

## Q_NPN_Darlington_ECB
designator *  value Q_NPN_Darlington_ECB
ki_keywords: transistor NPN Darlington; ki_description: NPN Darlington transistor, emitter/collector/base; Supplier: ~
pins: 1 E, 2 C, 3 B

## Q_NPN_Darlington_ECBC
designator *  value Q_NPN_Darlington_ECBC
ki_keywords: transistor NPN Darlington; ki_description: NPN Darlington transistor, emitter/collector/base, collector connected to mounting plane; Supplier: ~
pins: 1 E, 2 C, 3 B, 4 C2 (in)

## Q_NPN_EBC
designator *  value Q_NPN_EBC
ki_keywords: transistor NPN; ki_description: NPN transistor, emitter/base/collector; Supplier: ~
pins: 1 E, 2 B, 3 C

## Q_NPN_ECB
designator *  value Q_NPN_ECB
ki_keywords: transistor NPN; ki_description: NPN transistor, emitter/collector/base; Supplier: ~
pins: 1 E, 2 C, 3 B

## Q_NPN_ECB_BRT
designator *  value Q_NPN_ECB_BRT
ki_keywords: transistor NPN; ki_description: NPN transistor, emitter/collector/base; Supplier: ~
pins: 1 E, 2 C, 3 B (in)

## Q_NPN_ECBC
designator *  value Q_NPN_ECBC
ki_keywords: transistor NPN; ki_description: NPN transistor, emitter/collector/base, collector connected to mounting plane; Supplier: ~
pins: 1 E, 2 C, 3 B, 4 C

## Q_NUJT_BEB
designator *  value Q_NUJT_BEB
ki_keywords: transistor UJT; ki_description: N-Type unijunction transistor; Supplier: ~
pins: 1 B2, 2 E (in), 3 B1

## Q_Photo_NPN
designator *  value Q_Photo_NPN
ki_keywords: phototransistor NPN; ki_description: NPN phototransistor, collector/emitter; Supplier: ~
pins: 1 C, 2 E

## Q_Photo_NPN_CBE
designator *  value Q_Photo_NPN_CBE
ki_keywords: phototransistor NPN; ki_description: NPN phototransistor, collector/base/emitter; Supplier: ~
pins: 1 C, 2 B (in), 3 E

## Q_Photo_NPN_CE
designator *  value Q_Photo_NPN_CE
ki_keywords: phototransistor NPN; ki_description: NPN phototransistor, collector/emitter; Supplier: ~
pins: 1 C, 2 E

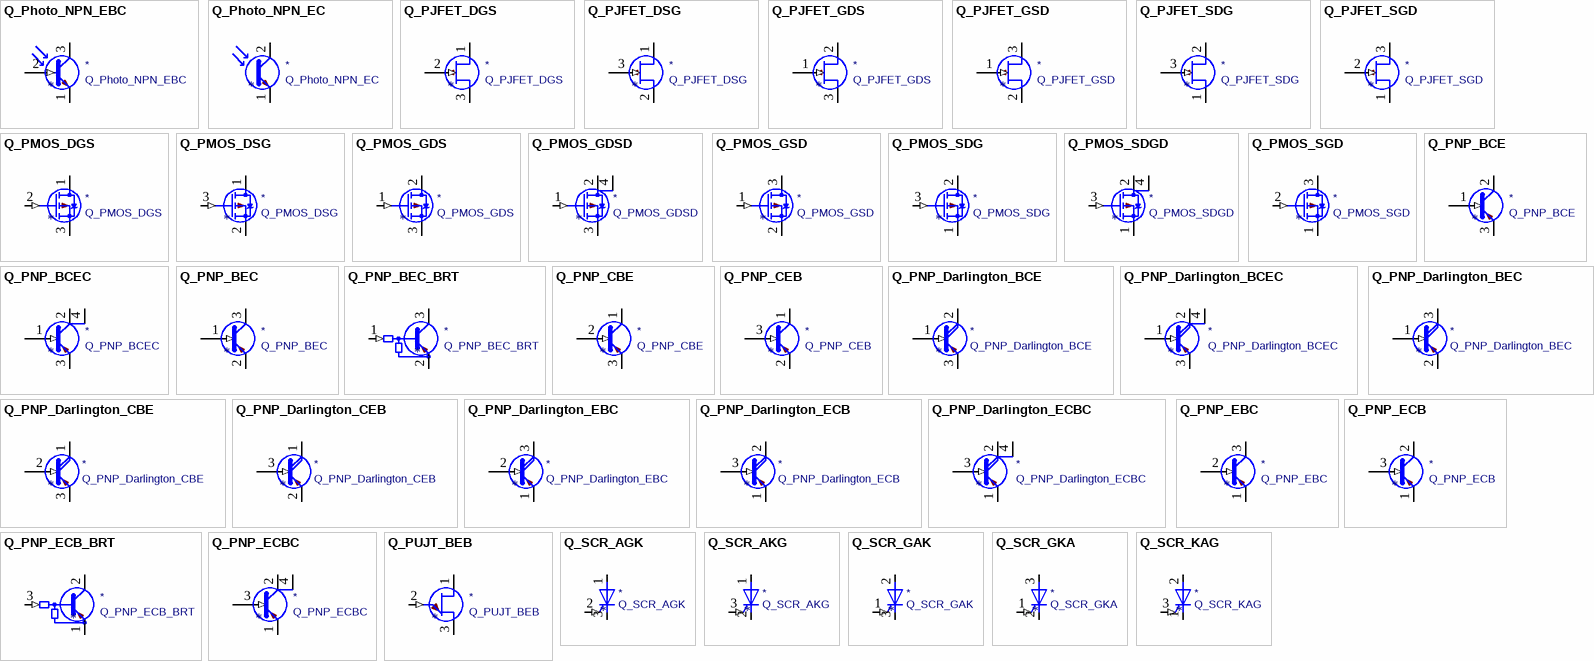
[diagram p11: symbols Q_Photo_NPN_EBC to Q_SCR_KAG]

## Q_Photo_NPN_EBC
designator *  value Q_Photo_NPN_EBC
ki_keywords: phototransistor NPN; ki_description: NPN phototransistor, emitter/base/collector; Supplier: ~
pins: 1 E, 2 B (in), 3 C

## Q_Photo_NPN_EC
designator *  value Q_Photo_NPN_EC
ki_keywords: phototransistor NPN; ki_description: NPN phototransistor, emitter/collector; Supplier: ~
pins: 1 E, 2 C

## Q_PJFET_DGS
designator *  value Q_PJFET_DGS
ki_keywords: transistor PJFET P-JFET; ki_description: P-JFET transistor, drain/gate/source; Supplier: ~
pins: 1 D, 2 G (in), 3 S

## Q_PJFET_DSG
designator *  value Q_PJFET_DSG
ki_keywords: transistor PJFET P-JFET; ki_description: P-JFET transistor, drain/source/gate; Supplier: ~
pins: 1 D, 2 S, 3 G (in)

## Q_PJFET_GDS
designator *  value Q_PJFET_GDS
ki_keywords: transistor PJFET P-JFET; ki_description: P-JFET transistor, gate/drain/source; Supplier: ~
pins: 1 G (in), 2 D, 3 S

## Q_PJFET_GSD
designator *  value Q_PJFET_GSD
ki_keywords: transistor PJFET P-JFET; ki_description: P-JFET transistor, gate/source/drain; Supplier: ~
pins: 1 G (in), 2 S, 3 D

## Q_PJFET_SDG
designator *  value Q_PJFET_SDG
ki_keywords: transistor PJFET P-JFET; ki_description: P-JFET transistor, source/drain/gate; Supplier: ~
pins: 1 S, 2 D, 3 G (in)

## Q_PJFET_SGD
designator *  value Q_PJFET_SGD
ki_keywords: transistor PJFET P-JFET; ki_description: P-JFET transistor, source/gate/drain; Supplier: ~
pins: 1 S, 2 G (in), 3 D

## Q_PMOS_DGS
designator *  value Q_PMOS_DGS
ki_keywords: transistor PMOS P-MOS P-MOSFET; ki_description: P-MOSFET transistor, drain/gate/source; Supplier: ~
pins: 1 D, 2 G (in), 3 S

## Q_PMOS_DSG
designator *  value Q_PMOS_DSG
ki_keywords: transistor PMOS P-MOS P-MOSFET; ki_description: P-MOSFET transistor, drain/source/gate; Supplier: ~
pins: 1 D, 2 S, 3 G (in)

## Q_PMOS_GDS
designator *  value Q_PMOS_GDS
ki_keywords: transistor PMOS P-MOS P-MOSFET; ki_description: P-MOSFET transistor, gate/drain/source; Supplier: ~
pins: 1 G (in), 2 D, 3 S

## Q_PMOS_GDSD
designator *  value Q_PMOS_GDSD
ki_keywords: transistor PMOS P-MOS P-MOSFET; ki_description: P-MOSFET transistor, gate/drain/source, drain connected to mounting plane; Supplier: ~
pins: 1 G (in), 2 D, 3 S, 4 D

## Q_PMOS_GSD
designator *  value Q_PMOS_GSD
ki_keywords: transistor PMOS P-MOS P-MOSFET; ki_description: P-MOSFET transistor, gate/source/drain; Supplier: ~
pins: 1 G (in), 2 S, 3 D

## Q_PMOS_SDG
designator *  value Q_PMOS_SDG
ki_keywords: transistor PMOS P-MOS P-MOSFET; ki_description: P-MOSFET transistor, source/drain/gate; Supplier: ~
pins: 1 S, 2 D, 3 G (in)

## Q_PMOS_SDGD
designator *  value Q_PMOS_SDGD
ki_keywords: transistor PMOS P-MOS P-MOSFET; ki_description: P-MOSFET transistor, source/drain/gate, drain connected to mounting plane; Supplier: ~
pins: 1 S, 2 D, 3 G (in), 4 D

## Q_PMOS_SGD
designator *  value Q_PMOS_SGD
ki_keywords: transistor PMOS P-MOS P-MOSFET; ki_description: P-MOSFET transistor, source/gate/drain; Supplier: ~
pins: 1 S, 2 G (in), 3 D

## Q_PNP_BCE
designator *  value Q_PNP_BCE
ki_keywords: transistor PNP; ki_description: PNP transistor, base/collector/emitter; Supplier: ~
pins: 1 B (in), 2 C, 3 E

## Q_PNP_BCEC
designator *  value Q_PNP_BCEC
ki_keywords: transistor PNP; ki_description: PNP transistor, base/collector/emitter, collector connected to mounting plane; Supplier: ~
pins: 1 B (in), 2 C, 3 E, 4 C

## Q_PNP_BEC
designator *  value Q_PNP_BEC
ki_keywords: transistor PNP; ki_description: PNP transistor, base/emitter/collector; Supplier: ~
pins: 1 B (in), 2 E, 3 C

## Q_PNP_BEC_BRT
designator *  value Q_PNP_BEC_BRT
ki_keywords: transistor PNP; ki_description: PNP bias resistor transistor, base/emitter/collector; Supplier: ~
pins: 1 B (in), 2 E, 3 C

## Q_PNP_CBE
designator *  value Q_PNP_CBE
ki_keywords: transistor PNP; ki_description: PNP transistor, collector/base/emitter; Supplier: ~
pins: 1 C, 2 B (in), 3 E

## Q_PNP_CEB
designator *  value Q_PNP_CEB
ki_keywords: transistor PNP; ki_description: PNP transistor, collector/emitter/base; Supplier: ~
pins: 1 C, 2 E, 3 B (in)

## Q_PNP_Darlington_BCE
designator *  value Q_PNP_Darlington_BCE
ki_keywords: transistor PNP Darlington; ki_description: PNP Darlington transistor, base/collector/emitter; Supplier: ~
pins: 1 B (in), 2 C, 3 E

## Q_PNP_Darlington_BCEC
designator *  value Q_PNP_Darlington_BCEC
ki_keywords: transistor PNP Darlington; ki_description: PNP Darlington transistor, base/collector/emitter, collector connected to mounting plane; Supplier: ~
pins: 1 B (in), 2 C, 3 E, 4 C

## Q_PNP_Darlington_BEC
designator *  value Q_PNP_Darlington_BEC
ki_keywords: transistor PNP Darlington; ki_description: PNP Darlington transistor, base/emitter/collector; Supplier: ~
pins: 1 B (in), 2 E, 3 C

## Q_PNP_Darlington_CBE
designator *  value Q_PNP_Darlington_CBE
ki_keywords: transistor PNP Darlington; ki_description: PNP Darlington transistor, collector/base/emitter; Supplier: ~
pins: 1 C, 2 B (in), 3 E

## Q_PNP_Darlington_CEB
designator *  value Q_PNP_Darlington_CEB
ki_keywords: transistor PNP Darlington; ki_description: PNP Darlington transistor, collector/emitter/base; Supplier: ~
pins: 1 C, 2 E, 3 B (in)

## Q_PNP_Darlington_EBC
designator *  value Q_PNP_Darlington_EBC
ki_keywords: transistor PNP Darlington; ki_description: PNP Darlington transistor, emitter/base/collector; Supplier: ~
pins: 1 E, 2 B (in), 3 C

## Q_PNP_Darlington_ECB
designator *  value Q_PNP_Darlington_ECB
ki_keywords: transistor PNP Darlington; ki_description: PNP Darlington transistor, emitter/collector/base; Supplier: ~
pins: 1 E, 2 C, 3 B (in)

## Q_PNP_Darlington_ECBC
designator *  value Q_PNP_Darlington_ECBC
ki_keywords: transistor PNP Darlington; ki_description: PNP Darlington transistor, emitter/collector/base, collector connected to mounting plane; Supplier: ~
pins: 1 E, 2 C, 3 B (in), 4 C

## Q_PNP_EBC
designator *  value Q_PNP_EBC
ki_keywords: transistor PNP; ki_description: PNP transistor, emitter/base/collector; Supplier: ~
pins: 1 E, 2 B (in), 3 C

## Q_PNP_ECB
designator *  value Q_PNP_ECB
ki_keywords: transistor PNP; ki_description: PNP transistor, emitter/collector/base; Supplier: ~
pins: 1 E, 2 C, 3 B (in)

## Q_PNP_ECB_BRT
designator *  value Q_PNP_ECB_BRT
ki_keywords: transistor PNP; ki_description: PNP bias resistor transistor, emitter/collector/base; Supplier: ~
pins: 1 E, 2 C, 3 B (in)

## Q_PNP_ECBC
designator *  value Q_PNP_ECBC
ki_keywords: transistor PNP; ki_description: PNP transistor, emitter/collector/base, collector connected to mounting plane; Supplier: ~
pins: 1 E, 2 C, 3 B (in), 4 C

## Q_PUJT_BEB
designator *  value Q_PUJT_BEB
ki_keywords: transistor UJT; ki_description: P-Type unijunction transistor; Supplier: ~
pins: 1 B2, 2 E (in), 3 B1

## Q_SCR_AGK
designator *  value Q_SCR_AGK
ki_keywords: SCR thyristor; ki_description: Silicon controlled rectifier, anode/gate/cathode; Supplier: ~
pins: 1 A, 2 G (in), 3 K

## Q_SCR_AKG
designator *  value Q_SCR_AKG
ki_keywords: SCR thyristor; ki_description: Silicon controlled rectifier, anode/cathode/gate; Supplier: ~
pins: 1 A, 2 K, 3 G (in)

## Q_SCR_GAK
designator *  value Q_SCR_GAK
ki_keywords: SCR thyristor; ki_description: Silicon controlled rectifier, gate/anode/cathode; Supplier: ~
pins: 1 G (in), 2 A, 3 K

## Q_SCR_GKA
designator *  value Q_SCR_GKA
ki_keywords: SCR thyristor; ki_description: Silicon controlled rectifier, gate/cathode/anode; Supplier: ~
pins: 1 G (in), 2 K, 3 A

## Q_SCR_KAG
designator *  value Q_SCR_KAG
ki_keywords: SCR thyristor; ki_description: Silicon controlled rectifier, cathode/anode/gate; Supplier: ~
pins: 1 K, 2 A, 3 G (in)

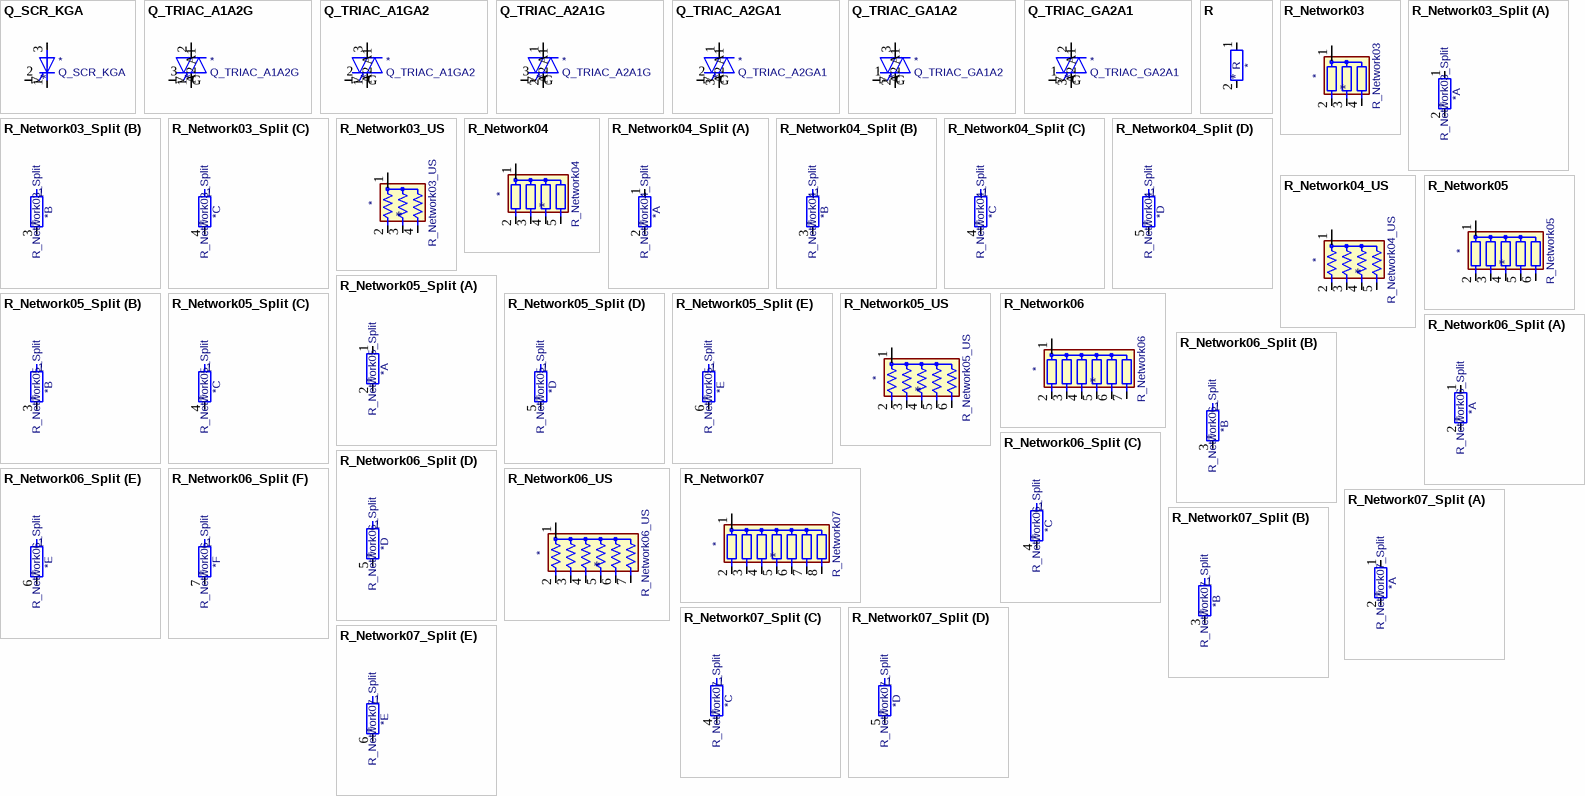
[diagram p12: symbols Q_SCR_KGA to R_Network07_Split]

## Q_SCR_KGA
designator *  value Q_SCR_KGA
ki_keywords: SCR thyristor; ki_description: Silicon controlled rectifier, cathode/gate/anode; Supplier: ~
pins: 1 K, 2 G (in), 3 A

## Q_TRIAC_A1A2G
designator *  value Q_TRIAC_A1A2G
ki_keywords: TRIAC; ki_description: Triode for alternating current, anode1/anode2/gate; Supplier: ~
pins: 1 A1, 2 A2, 3 G (in)

## Q_TRIAC_A1GA2
designator *  value Q_TRIAC_A1GA2
ki_keywords: TRIAC; ki_description: Triode for alternating current, anode1/gate/anode2; Supplier: ~
pins: 1 A1, 2 G (in), 3 A2

## Q_TRIAC_A2A1G
designator *  value Q_TRIAC_A2A1G
ki_keywords: TRIAC; ki_description: Triode for alternating current, anode2/anode1/gate; Supplier: ~
pins: 1 A2, 2 A1, 3 G (in)

## Q_TRIAC_A2GA1
designator *  value Q_TRIAC_A2GA1
ki_keywords: TRIAC; ki_description: Triode for alternating current, anode2/gate/anode1; Supplier: ~
pins: 1 A2, 2 G (in), 3 A1

## Q_TRIAC_GA1A2
designator *  value Q_TRIAC_GA1A2
ki_keywords: TRIAC; ki_description: Triode for alternating current, gate/anode1/anode2; Supplier: ~
pins: 1 G (in), 2 A1, 3 A2

## Q_TRIAC_GA2A1
designator *  value Q_TRIAC_GA2A1
ki_keywords: TRIAC; ki_description: Triode for alternating current, gate/anode2/anode1; Supplier: ~
pins: 1 G (in), 2 A2, 3 A1

## R
designator *  value R
ki_keywords: R res resistor; ki_description: Resistor; ki_fp_filters: R_*; Supplier: ~
footprint R_0603_1608Metric
pins: 1, 2

## R_Network03
designator *  value R_Network03
ki_keywords: R network star-topology; ki_description: 3 resistor network, star topology, bussed resistors, small symbol; ki_fp_filters: R?Array?SIP*; Footprint: Resistor_THT:R_Array_SIP4; Supplier: http://www.vishay.com/docs/31509/csc.pdf
footprint R_Array_SIP4
pins: 1 common, 2 R1, 3 R2, 4 R3

## R_Network03_Split
designator *  value R_Network03_Split
ki_keywords: R network star-topology; ki_description: 3 resistor network, star topology, bussed resistors, split; ki_fp_filters: R?Array?SIP*; Footprint: Resistor_THT:R_Array_SIP4; Supplier: http://www.vishay.com/docs/31509/csc.pdf
footprint R_Array_SIP4
part A pins: 1 R1.1, 2 R1.2
part B pins: 3 R2.2
part C pins: 4 R3.2

## R_Network03_US
designator *  value R_Network03_US
ki_keywords: R network star-topology; ki_description: 3 resistor network, star topology, bussed resistors, small US symbol; ki_fp_filters: R?Array?SIP*; Footprint: Resistor_THT:R_Array_SIP4; Supplier: http://www.vishay.com/docs/31509/csc.pdf
footprint R_Array_SIP4
pins: 1 common, 2 R1, 3 R2, 4 R3

## R_Network04
designator *  value R_Network04
ki_keywords: R network star-topology; ki_description: 4 resistor network, star topology, bussed resistors, small symbol; ki_fp_filters: R?Array?SIP*; Footprint: Resistor_THT:R_Array_SIP5; Supplier: http://www.vishay.com/docs/31509/csc.pdf
footprint R_Array_SIP5
pins: 1 common, 2 R1, 3 R2, 4 R3, 5 R4

## R_Network04_Split
designator *  value R_Network04_Split
ki_keywords: R network star-topology; ki_description: 4 resistor network, star topology, bussed resistors, split; ki_fp_filters: R?Array?SIP*; Footprint: Resistor_THT:R_Array_SIP5; Supplier: http://www.vishay.com/docs/31509/csc.pdf
footprint R_Array_SIP5
part A pins: 1 R1.1, 2 R1.2
part B pins: 3 R2.2
part C pins: 4 R3.2
part D pins: 5 R4.2

## R_Network04_US
designator *  value R_Network04_US
ki_keywords: R network star-topology; ki_description: 4 resistor network, star topology, bussed resistors, small US symbol; ki_fp_filters: R?Array?SIP*; Footprint: Resistor_THT:R_Array_SIP5; Supplier: http://www.vishay.com/docs/31509/csc.pdf
footprint R_Array_SIP5
pins: 1 common, 2 R1, 3 R2, 4 R3, 5 R4

## R_Network05
designator *  value R_Network05
ki_keywords: R network star-topology; ki_description: 5 resistor network, star topology, bussed resistors, small symbol; ki_fp_filters: R?Array?SIP*; Footprint: Resistor_THT:R_Array_SIP6; Supplier: http://www.vishay.com/docs/31509/csc.pdf
footprint R_Array_SIP6
pins: 1 common, 2 R1, 3 R2, 4 R3, 5 R4, 6 R5

## R_Network05_Split
designator *  value R_Network05_Split
ki_keywords: R network star-topology; ki_description: 5 resistor network, star topology, bussed resistors, split; ki_fp_filters: R?Array?SIP*; Footprint: Resistor_THT:R_Array_SIP6; Supplier: http://www.vishay.com/docs/31509/csc.pdf
footprint R_Array_SIP6
part A pins: 1 R1.1, 2 R1.2
part B pins: 3 R2.2
part C pins: 4 R3.2
part D pins: 5 R4.2
part E pins: 6 R5.2

## R_Network05_US
designator *  value R_Network05_US
ki_keywords: R network star-topology; ki_description: 5 resistor network, star topology, bussed resistors, small US symbol; ki_fp_filters: R?Array?SIP*; Footprint: Resistor_THT:R_Array_SIP6; Supplier: http://www.vishay.com/docs/31509/csc.pdf
footprint R_Array_SIP6
pins: 1 common, 2 R1, 3 R2, 4 R3, 5 R4, 6 R5

## R_Network06
designator *  value R_Network06
ki_keywords: R network star-topology; ki_description: 6 resistor network, star topology, bussed resistors, small symbol; ki_fp_filters: R?Array?SIP*; Footprint: Resistor_THT:R_Array_SIP7; Supplier: http://www.vishay.com/docs/31509/csc.pdf
footprint R_Array_SIP7
pins: 1 common, 2 R1, 3 R2, 4 R3, 5 R4, 6 R5, 7 R6

## R_Network06_Split
designator *  value R_Network06_Split
ki_keywords: R network star-topology; ki_description: 6 resistor network, star topology, bussed resistors, split; ki_fp_filters: R?Array?SIP*; Footprint: Resistor_THT:R_Array_SIP7; Supplier: http://www.vishay.com/docs/31509/csc.pdf
footprint R_Array_SIP7
part A pins: 1 R1.1, 2 R1.2
part B pins: 3 R2.2
part C pins: 4 R3.2
part D pins: 5 R4.2
part E pins: 6 R5.2
part F pins: 7 R6.2

## R_Network06_US
designator *  value R_Network06_US
ki_keywords: R network star-topology; ki_description: 6 resistor network, star topology, bussed resistors, small US symbol; ki_fp_filters: R?Array?SIP*; Footprint: Resistor_THT:R_Array_SIP7; Supplier: http://www.vishay.com/docs/31509/csc.pdf
footprint R_Array_SIP7
pins: 1 common, 2 R1, 3 R2, 4 R3, 5 R4, 6 R5, 7 R6

## R_Network07
designator *  value R_Network07
ki_keywords: R network star-topology; ki_description: 7 resistor network, star topology, bussed resistors, small symbol; ki_fp_filters: R?Array?SIP*; Footprint: Resistor_THT:R_Array_SIP8; Supplier: http://www.vishay.com/docs/31509/csc.pdf
footprint R_Array_SIP8
pins: 1 common, 2 R1, 3 R2, 4 R3, 5 R4, 6 R5, 7 R6, 8 R7

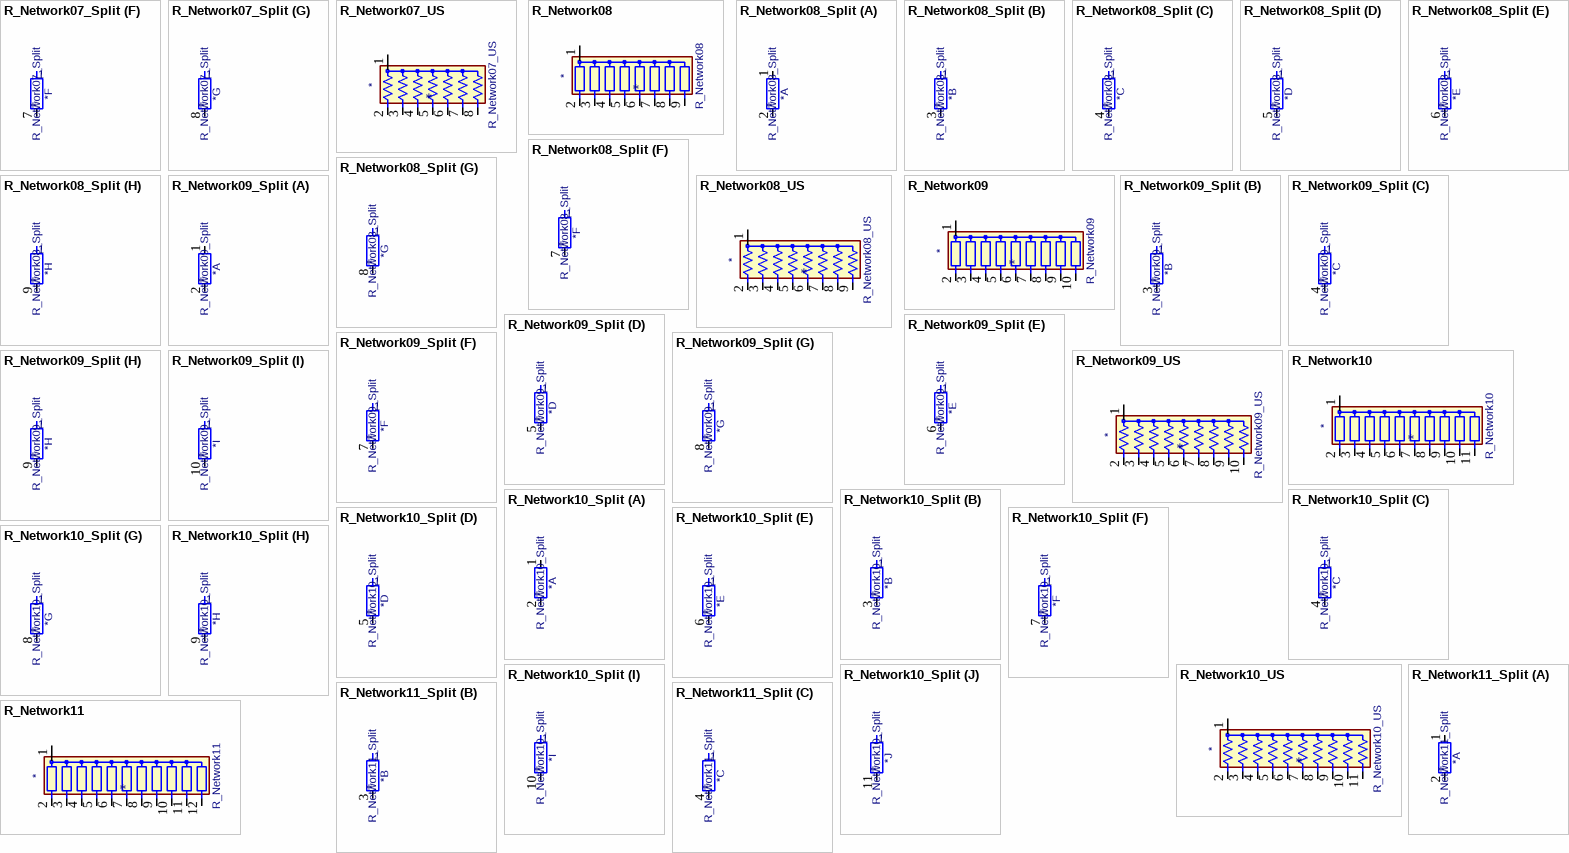
[diagram p13: symbols R_Network07_Split to R_Network11_Split]

## R_Network07_Split
designator *  value R_Network07_Split
ki_keywords: R network star-topology; ki_description: 7 resistor network, star topology, bussed resistors, split; ki_fp_filters: R?Array?SIP*; Footprint: Resistor_THT:R_Array_SIP8; Supplier: http://www.vishay.com/docs/31509/csc.pdf
footprint R_Array_SIP8
part A pins: 1 R1.1, 2 R1.2
part B pins: 3 R2.2
part C pins: 4 R3.2
part D pins: 5 R4.2
part E pins: 6 R5.2
part F pins: 7 R6.2
part G pins: 8 R7.2

## R_Network07_US
designator *  value R_Network07_US
ki_keywords: R network star-topology; ki_description: 7 resistor network, star topology, bussed resistors, small US symbol; ki_fp_filters: R?Array?SIP*; Footprint: Resistor_THT:R_Array_SIP8; Supplier: http://www.vishay.com/docs/31509/csc.pdf
footprint R_Array_SIP8
pins: 1 common, 2 R1, 3 R2, 4 R3, 5 R4, 6 R5, 7 R6, 8 R7

## R_Network08
designator *  value R_Network08
ki_keywords: R network star-topology; ki_description: 8 resistor network, star topology, bussed resistors, small symbol; ki_fp_filters: R?Array?SIP*; Footprint: Resistor_THT:R_Array_SIP9; Supplier: http://www.vishay.com/docs/31509/csc.pdf
footprint R_Array_SIP9
pins: 1 common, 2 R1, 3 R2, 4 R3, 5 R4, 6 R5, 7 R6, 8 R7, 9 R8

## R_Network08_Split
designator *  value R_Network08_Split
ki_keywords: R network star-topology; ki_description: 8 resistor network, star topology, bussed resistors, split; ki_fp_filters: R?Array?SIP*; Footprint: Resistor_THT:R_Array_SIP9; Supplier: http://www.vishay.com/docs/31509/csc.pdf
footprint R_Array_SIP9
part A pins: 1 R1.1, 2 R1.2
part B pins: 3 R2.2
part C pins: 4 R3.2
part D pins: 5 R4.2
part E pins: 6 R5.2
part F pins: 7 R6.2
part G pins: 8 R7.2
part H pins: 9 R8.2

## R_Network08_US
designator *  value R_Network08_US
ki_keywords: R network star-topology; ki_description: 8 resistor network, star topology, bussed resistors, small US symbol; ki_fp_filters: R?Array?SIP*; Footprint: Resistor_THT:R_Array_SIP9; Supplier: http://www.vishay.com/docs/31509/csc.pdf
footprint R_Array_SIP9
pins: 1 common, 2 R1, 3 R2, 4 R3, 5 R4, 6 R5, 7 R6, 8 R7, 9 R8

## R_Network09
designator *  value R_Network09
ki_keywords: R network star-topology; ki_description: 9 resistor network, star topology, bussed resistors, small symbol; ki_fp_filters: R?Array?SIP*; Footprint: Resistor_THT:R_Array_SIP10; Supplier: http://www.vishay.com/docs/31509/csc.pdf
footprint R_Array_SIP10
pins: 1 common, 2 R1, 3 R2, 4 R3, 5 R4, 6 R5, 7 R6, 8 R7, 9 R8, 10 R9

## R_Network09_Split
designator *  value R_Network09_Split
ki_keywords: R network star-topology; ki_description: 9 resistor network, star topology, bussed resistors, split; ki_fp_filters: R?Array?SIP*; Footprint: Resistor_THT:R_Array_SIP10; Supplier: http://www.vishay.com/docs/31509/csc.pdf
footprint R_Array_SIP10
part A pins: 1 R1.1, 2 R1.2
part B pins: 3 R2.2
part C pins: 4 R3.2
part D pins: 5 R4.2
part E pins: 6 R5.2
part F pins: 7 R6.2
part G pins: 8 R7.2
part H pins: 9 R8.2
part I pins: 10 R9.2

## R_Network09_US
designator *  value R_Network09_US
ki_keywords: R network star-topology; ki_description: 9 resistor network, star topology, bussed resistors, small US symbol; ki_fp_filters: R?Array?SIP*; Footprint: Resistor_THT:R_Array_SIP10; Supplier: http://www.vishay.com/docs/31509/csc.pdf
footprint R_Array_SIP10
pins: 1 common, 2 R1, 3 R2, 4 R3, 5 R4, 6 R5, 7 R6, 8 R7, 9 R8, 10 R9

## R_Network10
designator *  value R_Network10
ki_keywords: R network star-topology; ki_description: 10 resistor network, star topology, bussed resistors, small symbol; ki_fp_filters: R?Array?SIP*; Footprint: Resistor_THT:R_Array_SIP11; Supplier: http://www.vishay.com/docs/31509/csc.pdf
footprint R_Array_SIP11
pins: 1 common, 2 R1, 3 R2, 4 R3, 5 R4, 6 R5, 7 R6, 8 R7, 9 R8, 10 R9, 11 R10

## R_Network10_Split
designator *  value R_Network10_Split
ki_keywords: R network star-topology; ki_description: 10 resistor network, star topology, bussed resistors, split; ki_fp_filters: R?Array?SIP*; Footprint: Resistor_THT:R_Array_SIP11; Supplier: http://www.vishay.com/docs/31509/csc.pdf
footprint R_Array_SIP11
part A pins: 1 R1.1, 2 R1.2
part B pins: 3 R2.2
part C pins: 4 R3.2
part D pins: 5 R4.2
part E pins: 6 R5.2
part F pins: 7 R6.2
part G pins: 8 R7.2
part H pins: 9 R8.2
part I pins: 10 R9.2
part J pins: 11 R10.2

## R_Network10_US
designator *  value R_Network10_US
ki_keywords: R network star-topology; ki_description: 10 resistor network, star topology, bussed resistors, small US symbol; ki_fp_filters: R?Array?SIP*; Footprint: Resistor_THT:R_Array_SIP11; Supplier: http://www.vishay.com/docs/31509/csc.pdf
footprint R_Array_SIP11
pins: 1 common, 2 R1, 3 R2, 4 R3, 5 R4, 6 R5, 7 R6, 8 R7, 9 R8, 10 R9, 11 R10

## R_Network11
designator *  value R_Network11
ki_keywords: R network star-topology; ki_description: 11 resistor network, star topology, bussed resistors, small symbol; ki_fp_filters: R?Array?SIP*; Footprint: Resistor_THT:R_Array_SIP12; Supplier: http://www.vishay.com/docs/31509/csc.pdf
footprint R_Array_SIP12
pins: 1 common, 2 R1, 3 R2, 4 R3, 5 R4, 6 R5, 7 R6, 8 R7, 9 R8, 10 R9, 11 R10, 12 R11